# Altium schematic symbol library CargadorDeBaterias.SchLib: 12 symbols
Pins are listed as number, name and electrical type; pins without a type are passive.

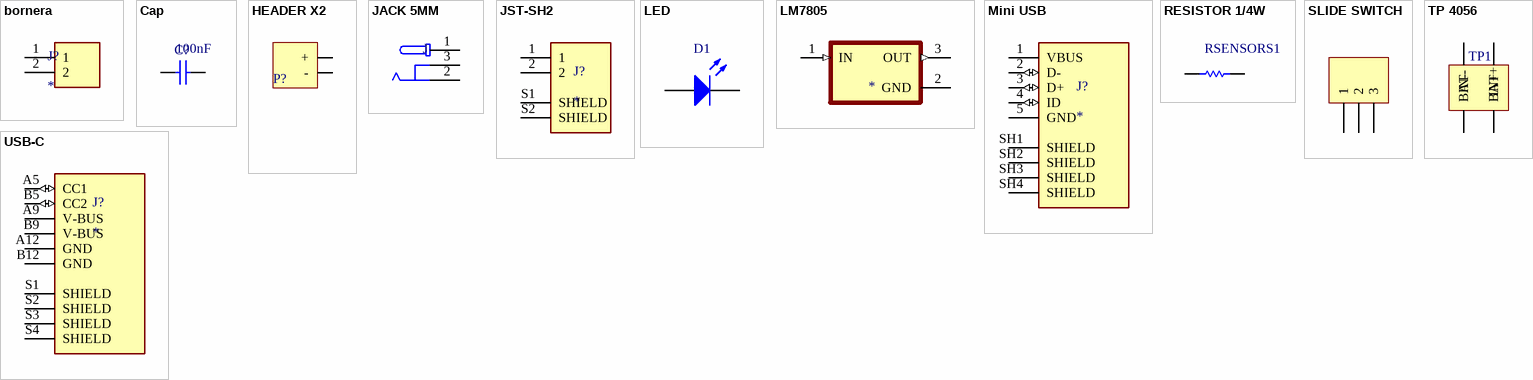
[diagram p0: symbols bornera to USB-C]

## bornera
designator J?
Connector, Terminal Block; Wire Receptacle; 2 Pos.; 16-30 AWG; 0.197 in. CL; Sid; MP: 282836-2; MF: TE Connectivity; Purchase-URL: https://pricing.snapeda.com/search/part/282836-2/?ref=eda; Value: *; Package: None; Check_prices: https://www.snapeda.com/parts/282836-2/TE+Connectivity+AMP+Connectors/view-part/?ref=eda; Price: None; SnapEDA_Link: https://www.snapeda.com/parts/282836-2/TE+Connectivity+AMP+Connectors/view-part/?ref=snap; Availability: In Stock
footprint TE_282836-2
pins: 1, 2

## Cap
designator C?  value 100nF
Capacitor; Published: 8-Jun-2000; LatestRevisionDate: 17-Jul-2002; LatestRevisionNote: Re-released for DXP Platform.; PackageReference: RAD-0.3; Publisher: Altium Limited; PackageDescription: Radial Cap, Thru-Hole; 2 Leads; 0.3 in Pin Spacing
simulation model CAP (Capacitor)
signal-integrity model Cap
footprint Cap Ceramica (Radial Cap, Thru-Hole; 2 Leads; 0.2 in Pin Spacing)
pins: 1, 2

## HEADER X2
designator P?
LatestRevisionDate: 17-Jul-2002; LatestRevisionNote: Re-released for DXP Platform.; Publisher: Altium Limited
footprint HEADER x2
pins: +, -

## JACK 5MM
designator J
MF: MPD; MP: EJ508A; Package: Non-Standard MPD; Value: *; SnapEDA_Link: https://www.snapeda.com/parts/EJ508A/MPD%20%28Memory%20Protection%20Devices%29/view-part/474399/?ref=snap; Price: None; Availability: Unavailable
footprint JACK 5MM
pins: 1 VCC, 2 GND, 3 GND

## JST-SH2
designator J?
MP: BM02B-SRSS-TB(LF)(SN); Package: None; Price: None; Value: *; Availability: Unavailable
footprint JST-SH2
pins: 1, 2, S1 SHIELD, S2 SHIELD

## LED
designator D1
Published: 8-Jun-2000; LatestRevisionDate: 08-Jul-2005; LatestRevisionNote: Mech Layer 1 removed.; PackageReference: LED-0; Publisher: Altium Limited; PackageDescription: LED; 2 Leads
footprint LED
pins: 0 A, 1 K

## LM7805
designator ?
MF: ON Semiconductor; MP: LM7805CT; Purchase-URL: https://pricing.snapeda.com/search/part/LM7805CT/?ref=eda; Check_prices: https://www.snapeda.com/parts/LM7805CT/Onsemi/view-part/?ref=eda; SnapEDA_Link: https://www.snapeda.com/parts/LM7805CT/Onsemi/view-part/?ref=snap; Price: None; Availability: In Stock; Package: TO-220-3 ON Semiconductor; Value: *
footprint TO220
pins: 1 IN (in), 2 GND (power), 3 OUT (out)

## Mini USB
designator J?
USB - mini B USB 2.0 Receptacle Connector 5 Position Surface Mount, Right Angle; MF: Samtec; MP: MUSB-05-F-B-SM-A-R-K-TR; SnapEDA_Link: https://www.snapeda.com/parts/MUSB-05-F-B-SM-A-R-K-TR/Samtec/view-part/?ref=snap; Package: None; Value: *; Check_prices: https://www.snapeda.com/parts/MUSB-05-F-B-SM-A-R-K-TR/Samtec/view-part/?ref=eda
footprint SAMTEC_MUSB-05-X-B-SM-A-R-K-TR
pins: 1 VBUS (power), 2 D- (io), 3 D+ (io), 4 ID (io), 5 GND (power), SH1 SHIELD, SH2 SHIELD, SH3 SHIELD, SH4 SHIELD

## RESISTOR 1/4W
designator RSENSORS1, comment Res1  (value not drawn)
Value: 3KΩ; Published: 8-Jun-2000; LatestRevisionDate: 17-Jul-2002; LatestRevisionNote: Re-released for DXP Platform.; PackageReference: AXIAL-0.3; Publisher: Altium Limited; PackageDescription: Axial Device, Thru-Hole; 2 Leads; 0.3 in Pin Spacing
footprint RESISTOR 1/4W (Axial Device, Thru-Hole; 2 Leads; 0.3 in Pin Spacing)
pins: 1, 2

## SLIDE SWITCH
designator ?
LatestRevisionDate: 17-Jul-2002; LatestRevisionNote: Re-released for DXP Platform.; Publisher: Altium Limited
footprint Slide Switch
pins: 1, 2, 3

## TP 4056
designator TP1  (value not drawn)
footprint TP 4056
pins: 0 IN+, 1 IN-, 2 BAT+, 3 BAT-

## USB-C
designator J?
Type C, 3 A, Right Angle, Surface Mount (SMT), Power-Only USB Receptacle; MP: UJC-HP-3-SMT-TR; Value: *; Availability: Unavailable; Price: None; Package: None
footprint CUI_UJC-HP-3-SMT-TR
pins: A5 CC1 (io), A9 V-BUS (power), A12 GND (power), B5 CC2 (io), B9 V-BUS (power), B12 GND (power), S1 SHIELD, S2 SHIELD, S3 SHIELD, S4 SHIELD